# Altium integrated library Micron Memory Mobile LPDRAM.IntLib: 146 symbols (part 29 of 41)
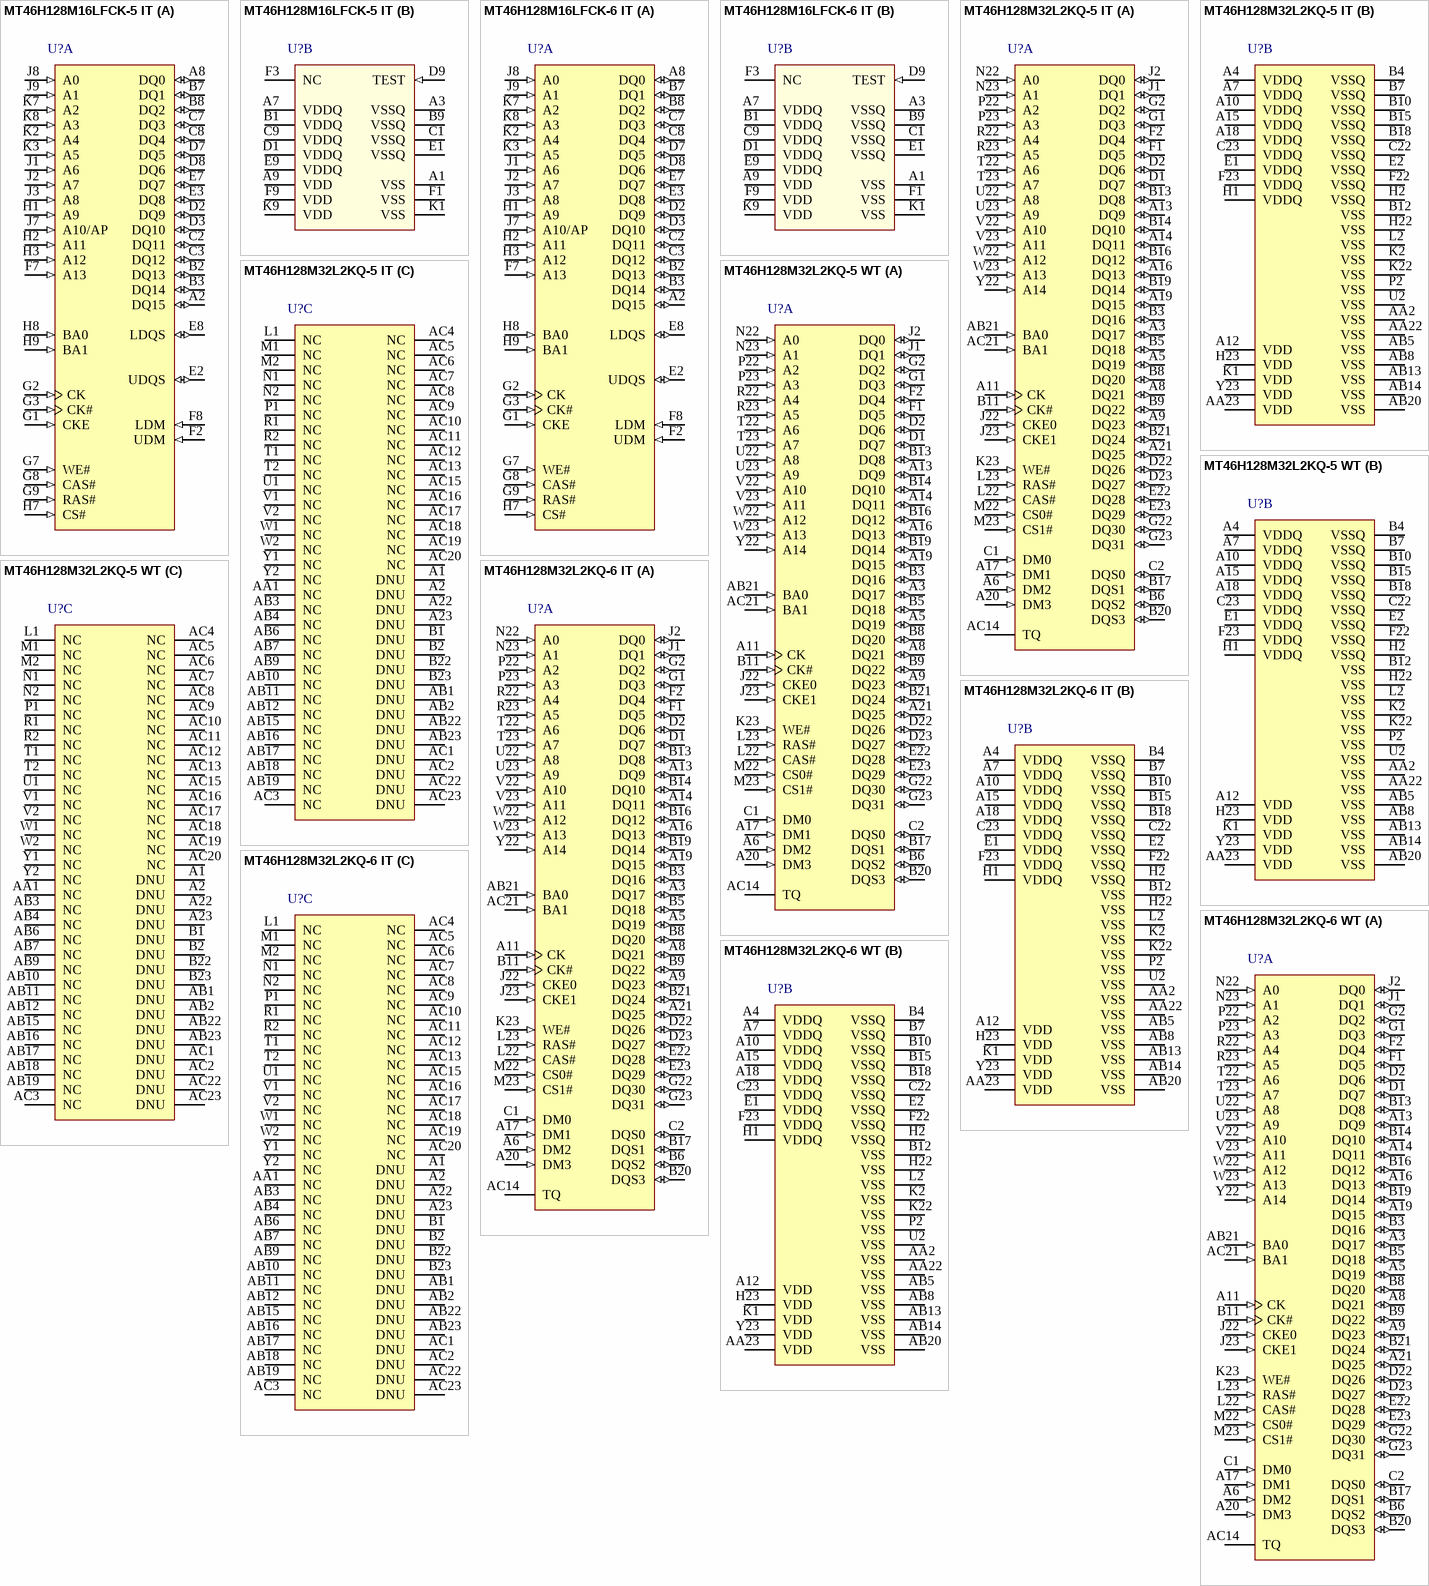
[diagram p52: symbols MT46H128M16LFCK-5 IT to MT46H128M32L2KQ-6 WT]

## MT46H128M32L2KQ-5 WT
designator U?
4Gb LPDDR400 SDRAM, 128Mb x 32, 5ns, 1.8V, -25 to 85 degC, 168-Pin POP, Pb-Free; Manufacturer: Micron; PartNumber: MT46H128M32L2KQ-5 WT; Clock Rate: 200 MHz; Op. Temp.: -25C to +85C; DatasheetVersion: Rev.E; PackageVersion: Rev.E; PackageReference: MICT-KQ-168; PackageDescription: 168-Ball POP, 12 x 12 mm, Pitch 0.5 mm; Cycle Time: 5ns; Data Rate: LPDDR400; Density: 4Gb; Depth: 128Mb; Package: POP; Part Status: Production; Pin Count: 168-ball; RoHS: Yes; Technology: Mobile LPDDR; Voltage: 1.8V; Width: x32; Mounting Technology: Surface Mount; ComponentLink1Description: Manufacturer URL; ComponentLink1URL: http://www.micron.com/; ComponentLink2Description: Datasheet; ComponentLink2URL: http://www.micron.com/~/media/Documents/Products/Data%20Sheet/DRAM/Mobile%20DRAM/Low-Power%20DRAM/LPDDR/70-series/T79M_2Gb_mobile_lpddr_sdram.pdf; ComponentLink3Description: Package Specification; ComponentLink3URL: http://www.micron.com/~/media/Documents/Products/Data%20Sheet/DRAM/Mobile%20DRAM/Low-Power%20DRAM/LPDDR/70-series/T79M_2Gb_mobile_lpddr_sdram.pdf
footprint MICT-KQ-168 (BGA, 168-Balls, Body 12x12mm, Pitch 0.5mm)
part A pins: A3 DQ17 (io) "Data input/output: Data bus for x16 and x32.", A5 DQ19 (io) "Data input/output: Data bus for x16 and x32.", A6 DM2 (in) "Input data mask: DM is an input mask signal for write data. Input data is masked when DM is sampled HIGH along with that input data during a WRITE access. DM is sampled on both edges of DQS. Although DM balls are input-only, (See Datasheet)", A8 DQ21 (io) "Data input/output: Data bus for x16 and x32.", A9 DQ23 (io) "Data input/output: Data bus for x16 and x32.", A11 CK (in) "Clock: CK is the system clock input. CK and CK# are differential clock inputs. All address and control input signals are sampled on the crossing of the positive edge of CK and the negative edge of CK#. Input and output data (See Datasheet)", A13 DQ9 (io) "Data input/output: Data bus for x16 and x32.", A14 DQ11 (io) "Data input/output: Data bus for x16 and x32.", A16 DQ13 (io) "Data input/output: Data bus for x16 and x32.", A17 DM1 (in) "Input data mask: DM is an input mask signal for write data. Input data is masked when DM is sampled HIGH along with that input data during a WRITE access. DM is sampled on both edges of DQS. Although DM balls are input-only, (See Datasheet)", A19 DQ15 (io) "Data input/output: Data bus for x16 and x32.", A20 DM3 (in) "Input data mask: DM is an input mask signal for write data. Input data is masked when DM is sampled HIGH along with that input data during a WRITE access. DM is sampled on both edges of DQS. Although DM balls are input-only, (See Datasheet)", A21 DQ25 (io) "Data input/output: Data bus for x16 and x32.", AB21 BA0 (in) "Bank address inputs: BA0 and BA1 define to which bank an ACTIVE, READ, WRITE, or PRECHARGE command is being applied. BA0 and BA1 also determine which mode register is loaded during a LOAD MODE REGISTER command.", AC14 TQ (hiz) "Temperature sensor output: TQ HIGH when LPDDR TJ exceeds 85degreesC.", AC21 BA1 (in) "Bank address inputs: BA0 and BA1 define to which bank an ACTIVE, READ, WRITE, or PRECHARGE command is being applied. BA0 and BA1 also determine which mode register is loaded during a LOAD MODE REGISTER command.", B3 DQ16 (io) "Data input/output: Data bus for x16 and x32.", B5 DQ18 (io) "Data input/output: Data bus for x16 and x32.", B6 DQS2 (io) "Data strobe: Output with read data, input with write data. DQS is edge-aligned with read data, center-aligned in write data. It is used to capture data.", B8 DQ20 (io) "Data input/output: Data bus for x16 and x32.", B9 DQ22 (io) "Data input/output: Data bus for x16 and x32.", B11 CK# (in) "Clock: CK is the system clock input. CK and CK# are differential clock inputs. All address and control input signals are sampled on the crossing of the positive edge of CK and the negative edge of CK#. Input and output data (See Datasheet)", B13 DQ8 (io) "Data input/output: Data bus for x16 and x32.", B14 DQ10 (io) "Data input/output: Data bus for x16 and x32.", B16 DQ12 (io) "Data input/output: Data bus for x16 and x32.", B17 DQS1 (io) "Data strobe: Output with read data, input with write data. DQS is edge-aligned with read data, center-aligned in write data. It is used to capture data.", B19 DQ14 (io) "Data input/output: Data bus for x16 and x32.", B20 DQS3 (io) "Data strobe: Output with read data, input with write data. DQS is edge-aligned with read data, center-aligned in write data. It is used to capture data.", B21 DQ24 (io) "Data input/output: Data bus for x16 and x32.", C1 DM0 (in) "Input data mask: DM is an input mask signal for write data. Input data is masked when DM is sampled HIGH along with that input data during a WRITE access. DM is sampled on both edges of DQS. Although DM balls are input-only, (See Datasheet)", C2 DQS0 (io) "Data strobe: Output with read data, input with write data. DQS is edge-aligned with read data, center-aligned in write data. It is used to capture data.", D1 DQ7 (io) "Data input/output: Data bus for x16 and x32.", D2 DQ6 (io) "Data input/output: Data bus for x16 and x32.", D22 DQ26 (io) "Data input/output: Data bus for x16 and x32.", D23 DQ27 (io) "Data input/output: Data bus for x16 and x32.", E22 DQ28 (io) "Data input/output: Data bus for x16 and x32.", E23 DQ29 (io) "Data input/output: Data bus for x16 and x32.", F1 DQ5 (io) "Data input/output: Data bus for x16 and x32.", F2 DQ4 (io) "Data input/output: Data bus for x16 and x32.", G1 DQ3 (io) "Data input/output: Data bus for x16 and x32.", G2 DQ2 (io) "Data input/output: Data bus for x16 and x32.", G22 DQ30 (io) "Data input/output: Data bus for x16 and x32.", G23 DQ31 (io) "Data input/output: Data bus for x16 and x32.", J1 DQ1 (io) "Data input/output: Data bus for x16 and x32.", J2 DQ0 (io) "Data input/output: Data bus for x16 and x32.", J22 CKE0 (in) "Clock enable: CKE HIGH activates, and CKE LOW deactivates, the internal clock signals, input buffers, and output drivers. Taking CKE LOW enables PRECHARGE power-down and SELF REFRESH operations (all banks idle), or ACTIVE (See Datasheet)", J23 CKE1 (in) "Clock enable: CKE HIGH activates, and CKE LOW deactivates, the internal clock signals, input buffers, and output drivers. Taking CKE LOW enables PRECHARGE power-down and SELF REFRESH operations (all banks idle), or ACTIVE (See Datasheet)", K23 WE# (in) "Command inputs: RAS#, CAS#, and WE# (along with CS#) define the command being entered.", L22 CAS# (in) "Command inputs: RAS#, CAS#, and WE# (along with CS#) define the command being entered.", L23 RAS# (in) "Command inputs: RAS#, CAS#, and WE# (along with CS#) define the command being entered.", M22 CS0# (in) "CS0# is used for a single LPDDR product.", M23 CS1# (in) "CS1# is used for dual LPDDR products and is considered RFU for single LPDDR MCPs.", N22 A0 (in) "Address inputs: Provide the row address for ACTIVE commands, and the column address and auto precharge bit (A10) for READ or WRITE commands, to select one location out of the memory array in the respective bank. During a (See Datasheet)", N23 A1 (in) "Address inputs: Provide the row address for ACTIVE commands, and the column address and auto precharge bit (A10) for READ or WRITE commands, to select one location out of the memory array in the respective bank. During a (See Datasheet)", P22 A2 (in) "Address inputs: Provide the row address for ACTIVE commands, and the column address and auto precharge bit (A10) for READ or WRITE commands, to select one location out of the memory array in the respective bank. During a (See Datasheet)", P23 A3 (in) "Address inputs: Provide the row address for ACTIVE commands, and the column address and auto precharge bit (A10) for READ or WRITE commands, to select one location out of the memory array in the respective bank. During a (See Datasheet)", R22 A4 (in) "Address inputs: Provide the row address for ACTIVE commands, and the column address and auto precharge bit (A10) for READ or WRITE commands, to select one location out of the memory array in the respective bank. During a (See Datasheet)", R23 A5 (in) "Address inputs: Provide the row address for ACTIVE commands, and the column address and auto precharge bit (A10) for READ or WRITE commands, to select one location out of the memory array in the respective bank. During a (See Datasheet)", T22 A6 (in) "Address inputs: Provide the row address for ACTIVE commands, and the column address and auto precharge bit (A10) for READ or WRITE commands, to select one location out of the memory array in the respective bank. During a (See Datasheet)", T23 A7 (in) "Address inputs: Provide the row address for ACTIVE commands, and the column address and auto precharge bit (A10) for READ or WRITE commands, to select one location out of the memory array in the respective bank. During a (See Datasheet)", U22 A8 (in) "Address inputs: Provide the row address for ACTIVE commands, and the column address and auto precharge bit (A10) for READ or WRITE commands, to select one location out of the memory array in the respective bank. During a (See Datasheet)", U23 A9 (in) "Address inputs: Provide the row address for ACTIVE commands, and the column address and auto precharge bit (A10) for READ or WRITE commands, to select one location out of the memory array in the respective bank. During a (See Datasheet)", V22 A10 (in) "Address inputs: Provide the row address for ACTIVE commands, and the column address and auto precharge bit (A10) for READ or WRITE commands, to select one location out of the memory array in the respective bank. During a (See Datasheet)", V23 A11 (in) "Address inputs: Provide the row address for ACTIVE commands, and the column address and auto precharge bit (A10) for READ or WRITE commands, to select one location out of the memory array in the respective bank. During a (See Datasheet)", W22 A12 (in) "Address inputs: Provide the row address for ACTIVE commands, and the column address and auto precharge bit (A10) for READ or WRITE commands, to select one location out of the memory array in the respective bank. During a (See Datasheet)", W23 A13 (in) "Address inputs: Provide the row address for ACTIVE commands, and the column address and auto precharge bit (A10) for READ or WRITE commands, to select one location out of the memory array in the respective bank. During a (See Datasheet)", Y22 A14 (in) "Address inputs: Provide the row address for ACTIVE commands, and the column address and auto precharge bit (A10) for READ or WRITE commands, to select one location out of the memory array in the respective bank. During a (See Datasheet)"
part B pins: A4 VDDQ (power) "DQ power supply.", A7 VDDQ (power) "DQ power supply.", A10 VDDQ (power) "DQ power supply.", A12 VDD (power) "Power supply.", A15 VDDQ (power) "DQ power supply.", A18 VDDQ (power) "DQ power supply.", AA2 VSS (power) "Ground.", AA22 VSS (power) "Ground.", AA23 VDD (power) "Power supply.", AB5 VSS (power) "Ground.", AB8 VSS (power) "Ground.", AB13 VSS (power) "Ground.", AB14 VSS (power) "Ground.", AB20 VSS (power) "Ground.", B4 VSSQ (power) "DQ ground.", B7 VSSQ (power) "DQ ground.", B10 VSSQ (power) "DQ ground.", B12 VSS (power) "Ground.", B15 VSSQ (power) "DQ ground.", B18 VSSQ (power) "DQ ground.", C22 VSSQ (power) "DQ ground.", C23 VDDQ (power) "DQ power supply.", E1 VDDQ (power) "DQ power supply.", E2 VSSQ (power) "DQ ground.", F22 VSSQ (power) "DQ ground.", F23 VDDQ (power) "DQ power supply.", H1 VDDQ (power) "DQ power supply.", H2 VSSQ (power) "DQ ground.", H22 VSS (power) "Ground.", H23 VDD (power) "Power supply.", K1 VDD (power) "Power supply.", K2 VSS (power) "Ground.", K22 VSS (power) "Ground.", L2 VSS (power) "Ground.", P2 VSS (power) "Ground.", U2 VSS (power) "Ground.", Y23 VDD (power) "Power supply."
part C pins: A1 DNU "Do not use", A2 DNU "Do not use", A22 DNU "Do not use", A23 DNU "Do not use", AA1 NC "No connect: May be left unconnected.", AB1 DNU "Do not use", AB2 DNU "Do not use", AB3 NC "No connect: May be left unconnected.", AB4 NC "No connect: May be left unconnected.", AB6 NC "No connect: May be left unconnected.", AB7 NC "No connect: May be left unconnected.", AB9 NC "No connect: May be left unconnected.", AB10 NC "No connect: May be left unconnected.", AB11 NC "No connect: May be left unconnected.", AB12 NC "No connect: May be left unconnected.", AB15 NC "No connect: May be left unconnected.", AB16 NC "No connect: May be left unconnected.", AB17 NC "No connect: May be left unconnected.", AB18 NC "No connect: May be left unconnected.", AB19 NC "No connect: May be left unconnected.", AB22 DNU "Do not use", AB23 DNU "Do not use", AC1 DNU "Do not use", AC2 DNU "Do not use", AC3 NC "No connect: May be left unconnected.", AC4 NC "No connect: May be left unconnected.", AC5 NC "No connect: May be left unconnected.", AC6 NC "No connect: May be left unconnected.", AC7 NC "No connect: May be left unconnected.", AC8 NC "No connect: May be left unconnected.", AC9 NC "No connect: May be left unconnected.", AC10 NC "No connect: May be left unconnected.", AC11 NC "No connect: May be left unconnected.", AC12 NC "No connect: May be left unconnected.", AC13 NC "No connect: May be left unconnected.", AC15 NC "No connect: May be left unconnected.", AC16 NC "No connect: May be left unconnected.", AC17 NC "No connect: May be left unconnected.", AC18 NC "No connect: May be left unconnected.", AC19 NC "No connect: May be left unconnected.", AC20 NC "No connect: May be left unconnected.", AC22 DNU "Do not use", AC23 DNU "Do not use", B1 DNU "Do not use", B2 DNU "Do not use", B22 DNU "Do not use", B23 DNU "Do not use", L1 NC "No connect: May be left unconnected.", M1 NC "No connect: May be left unconnected.", M2 NC "No connect: May be left unconnected.", N1 NC "No connect: May be left unconnected.", N2 NC "No connect: May be left unconnected.", P1 NC "No connect: May be left unconnected.", R1 NC "No connect: May be left unconnected.", R2 NC "No connect: May be left unconnected.", T1 NC "No connect: May be left unconnected.", T2 NC "No connect: May be left unconnected.", U1 NC "No connect: May be left unconnected.", V1 NC "No connect: May be left unconnected.", V2 NC "No connect: May be left unconnected.", W1 NC "No connect: May be left unconnected.", W2 NC "No connect: May be left unconnected.", Y1 NC "No connect: May be left unconnected.", Y2 NC "No connect: May be left unconnected."

## MT46H128M32L2KQ-6 IT
designator U?
4Gb LPDDR333 SDRAM, 128Mb x 32, 6ns, 1.8V, -40 to 85 degC, 168-Pin POP, Pb-Free; Manufacturer: Micron; PartNumber: MT46H128M32L2KQ-6 IT; Clock Rate: 167 MHz; Op. Temp.: -40C to +85C; DatasheetVersion: Rev.E; PackageVersion: Rev.E; PackageReference: MICT-KQ-168; PackageDescription: 168-Ball POP, 12 x 12 mm, Pitch 0.5 mm; Cycle Time: 6ns; Data Rate: LPDDR333; Density: 4Gb; Depth: 128Mb; Package: POP; Part Status: Production; Pin Count: 168-ball; RoHS: Yes; Technology: Mobile LPDDR; Voltage: 1.8V; Width: x32; Mounting Technology: Surface Mount; ComponentLink1Description: Manufacturer URL; ComponentLink1URL: http://www.micron.com/; ComponentLink2Description: Datasheet; ComponentLink2URL: http://www.micron.com/~/media/Documents/Products/Data%20Sheet/DRAM/Mobile%20DRAM/Low-Power%20DRAM/LPDDR/70-series/T79M_2Gb_mobile_lpddr_sdram.pdf; ComponentLink3Description: Package Specification; ComponentLink3URL: http://www.micron.com/~/media/Documents/Products/Data%20Sheet/DRAM/Mobile%20DRAM/Low-Power%20DRAM/LPDDR/70-series/T79M_2Gb_mobile_lpddr_sdram.pdf
footprint MICT-KQ-168 (BGA, 168-Balls, Body 12x12mm, Pitch 0.5mm)
part A pins: A3 DQ17 (io) "Data input/output: Data bus for x16 and x32.", A5 DQ19 (io) "Data input/output: Data bus for x16 and x32.", A6 DM2 (in) "Input data mask: DM is an input mask signal for write data. Input data is masked when DM is sampled HIGH along with that input data during a WRITE access. DM is sampled on both edges of DQS. Although DM balls are input-only, (See Datasheet)", A8 DQ21 (io) "Data input/output: Data bus for x16 and x32.", A9 DQ23 (io) "Data input/output: Data bus for x16 and x32.", A11 CK (in) "Clock: CK is the system clock input. CK and CK# are differential clock inputs. All address and control input signals are sampled on the crossing of the positive edge of CK and the negative edge of CK#. Input and output data (See Datasheet)", A13 DQ9 (io) "Data input/output: Data bus for x16 and x32.", A14 DQ11 (io) "Data input/output: Data bus for x16 and x32.", A16 DQ13 (io) "Data input/output: Data bus for x16 and x32.", A17 DM1 (in) "Input data mask: DM is an input mask signal for write data. Input data is masked when DM is sampled HIGH along with that input data during a WRITE access. DM is sampled on both edges of DQS. Although DM balls are input-only, (See Datasheet)", A19 DQ15 (io) "Data input/output: Data bus for x16 and x32.", A20 DM3 (in) "Input data mask: DM is an input mask signal for write data. Input data is masked when DM is sampled HIGH along with that input data during a WRITE access. DM is sampled on both edges of DQS. Although DM balls are input-only, (See Datasheet)", A21 DQ25 (io) "Data input/output: Data bus for x16 and x32.", AB21 BA0 (in) "Bank address inputs: BA0 and BA1 define to which bank an ACTIVE, READ, WRITE, or PRECHARGE command is being applied. BA0 and BA1 also determine which mode register is loaded during a LOAD MODE REGISTER command.", AC14 TQ (hiz) "Temperature sensor output: TQ HIGH when LPDDR TJ exceeds 85degreesC.", AC21 BA1 (in) "Bank address inputs: BA0 and BA1 define to which bank an ACTIVE, READ, WRITE, or PRECHARGE command is being applied. BA0 and BA1 also determine which mode register is loaded during a LOAD MODE REGISTER command.", B3 DQ16 (io) "Data input/output: Data bus for x16 and x32.", B5 DQ18 (io) "Data input/output: Data bus for x16 and x32.", B6 DQS2 (io) "Data strobe: Output with read data, input with write data. DQS is edge-aligned with read data, center-aligned in write data. It is used to capture data.", B8 DQ20 (io) "Data input/output: Data bus for x16 and x32.", B9 DQ22 (io) "Data input/output: Data bus for x16 and x32.", B11 CK# (in) "Clock: CK is the system clock input. CK and CK# are differential clock inputs. All address and control input signals are sampled on the crossing of the positive edge of CK and the negative edge of CK#. Input and output data (See Datasheet)", B13 DQ8 (io) "Data input/output: Data bus for x16 and x32.", B14 DQ10 (io) "Data input/output: Data bus for x16 and x32.", B16 DQ12 (io) "Data input/output: Data bus for x16 and x32.", B17 DQS1 (io) "Data strobe: Output with read data, input with write data. DQS is edge-aligned with read data, center-aligned in write data. It is used to capture data.", B19 DQ14 (io) "Data input/output: Data bus for x16 and x32.", B20 DQS3 (io) "Data strobe: Output with read data, input with write data. DQS is edge-aligned with read data, center-aligned in write data. It is used to capture data.", B21 DQ24 (io) "Data input/output: Data bus for x16 and x32.", C1 DM0 (in) "Input data mask: DM is an input mask signal for write data. Input data is masked when DM is sampled HIGH along with that input data during a WRITE access. DM is sampled on both edges of DQS. Although DM balls are input-only, (See Datasheet)", C2 DQS0 (io) "Data strobe: Output with read data, input with write data. DQS is edge-aligned with read data, center-aligned in write data. It is used to capture data.", D1 DQ7 (io) "Data input/output: Data bus for x16 and x32.", D2 DQ6 (io) "Data input/output: Data bus for x16 and x32.", D22 DQ26 (io) "Data input/output: Data bus for x16 and x32.", D23 DQ27 (io) "Data input/output: Data bus for x16 and x32.", E22 DQ28 (io) "Data input/output: Data bus for x16 and x32.", E23 DQ29 (io) "Data input/output: Data bus for x16 and x32.", F1 DQ5 (io) "Data input/output: Data bus for x16 and x32.", F2 DQ4 (io) "Data input/output: Data bus for x16 and x32.", G1 DQ3 (io) "Data input/output: Data bus for x16 and x32.", G2 DQ2 (io) "Data input/output: Data bus for x16 and x32.", G22 DQ30 (io) "Data input/output: Data bus for x16 and x32.", G23 DQ31 (io) "Data input/output: Data bus for x16 and x32.", J1 DQ1 (io) "Data input/output: Data bus for x16 and x32.", J2 DQ0 (io) "Data input/output: Data bus for x16 and x32.", J22 CKE0 (in) "Clock enable: CKE HIGH activates, and CKE LOW deactivates, the internal clock signals, input buffers, and output drivers. Taking CKE LOW enables PRECHARGE power-down and SELF REFRESH operations (all banks idle), or ACTIVE (See Datasheet)", J23 CKE1 (in) "Clock enable: CKE HIGH activates, and CKE LOW deactivates, the internal clock signals, input buffers, and output drivers. Taking CKE LOW enables PRECHARGE power-down and SELF REFRESH operations (all banks idle), or ACTIVE (See Datasheet)", K23 WE# (in) "Command inputs: RAS#, CAS#, and WE# (along with CS#) define the command being entered.", L22 CAS# (in) "Command inputs: RAS#, CAS#, and WE# (along with CS#) define the command being entered.", L23 RAS# (in) "Command inputs: RAS#, CAS#, and WE# (along with CS#) define the command being entered.", M22 CS0# (in) "CS0# is used for a single LPDDR product.", M23 CS1# (in) "CS1# is used for dual LPDDR products and is considered RFU for single LPDDR MCPs.", N22 A0 (in) "Address inputs: Provide the row address for ACTIVE commands, and the column address and auto precharge bit (A10) for READ or WRITE commands, to select one location out of the memory array in the respective bank. During a (See Datasheet)", N23 A1 (in) "Address inputs: Provide the row address for ACTIVE commands, and the column address and auto precharge bit (A10) for READ or WRITE commands, to select one location out of the memory array in the respective bank. During a (See Datasheet)", P22 A2 (in) "Address inputs: Provide the row address for ACTIVE commands, and the column address and auto precharge bit (A10) for READ or WRITE commands, to select one location out of the memory array in the respective bank. During a (See Datasheet)", P23 A3 (in) "Address inputs: Provide the row address for ACTIVE commands, and the column address and auto precharge bit (A10) for READ or WRITE commands, to select one location out of the memory array in the respective bank. During a (See Datasheet)", R22 A4 (in) "Address inputs: Provide the row address for ACTIVE commands, and the column address and auto precharge bit (A10) for READ or WRITE commands, to select one location out of the memory array in the respective bank. During a (See Datasheet)", R23 A5 (in) "Address inputs: Provide the row address for ACTIVE commands, and the column address and auto precharge bit (A10) for READ or WRITE commands, to select one location out of the memory array in the respective bank. During a (See Datasheet)", T22 A6 (in) "Address inputs: Provide the row address for ACTIVE commands, and the column address and auto precharge bit (A10) for READ or WRITE commands, to select one location out of the memory array in the respective bank. During a (See Datasheet)", T23 A7 (in) "Address inputs: Provide the row address for ACTIVE commands, and the column address and auto precharge bit (A10) for READ or WRITE commands, to select one location out of the memory array in the respective bank. During a (See Datasheet)", U22 A8 (in) "Address inputs: Provide the row address for ACTIVE commands, and the column address and auto precharge bit (A10) for READ or WRITE commands, to select one location out of the memory array in the respective bank. During a (See Datasheet)", U23 A9 (in) "Address inputs: Provide the row address for ACTIVE commands, and the column address and auto precharge bit (A10) for READ or WRITE commands, to select one location out of the memory array in the respective bank. During a (See Datasheet)", V22 A10 (in) "Address inputs: Provide the row address for ACTIVE commands, and the column address and auto precharge bit (A10) for READ or WRITE commands, to select one location out of the memory array in the respective bank. During a (See Datasheet)", V23 A11 (in) "Address inputs: Provide the row address for ACTIVE commands, and the column address and auto precharge bit (A10) for READ or WRITE commands, to select one location out of the memory array in the respective bank. During a (See Datasheet)", W22 A12 (in) "Address inputs: Provide the row address for ACTIVE commands, and the column address and auto precharge bit (A10) for READ or WRITE commands, to select one location out of the memory array in the respective bank. During a (See Datasheet)", W23 A13 (in) "Address inputs: Provide the row address for ACTIVE commands, and the column address and auto precharge bit (A10) for READ or WRITE commands, to select one location out of the memory array in the respective bank. During a (See Datasheet)", Y22 A14 (in) "Address inputs: Provide the row address for ACTIVE commands, and the column address and auto precharge bit (A10) for READ or WRITE commands, to select one location out of the memory array in the respective bank. During a (See Datasheet)"
part B pins: A4 VDDQ (power) "DQ power supply.", A7 VDDQ (power) "DQ power supply.", A10 VDDQ (power) "DQ power supply.", A12 VDD (power) "Power supply.", A15 VDDQ (power) "DQ power supply.", A18 VDDQ (power) "DQ power supply.", AA2 VSS (power) "Ground.", AA22 VSS (power) "Ground.", AA23 VDD (power) "Power supply.", AB5 VSS (power) "Ground.", AB8 VSS (power) "Ground.", AB13 VSS (power) "Ground.", AB14 VSS (power) "Ground.", AB20 VSS (power) "Ground.", B4 VSSQ (power) "DQ ground.", B7 VSSQ (power) "DQ ground.", B10 VSSQ (power) "DQ ground.", B12 VSS (power) "Ground.", B15 VSSQ (power) "DQ ground.", B18 VSSQ (power) "DQ ground.", C22 VSSQ (power) "DQ ground.", C23 VDDQ (power) "DQ power supply.", E1 VDDQ (power) "DQ power supply.", E2 VSSQ (power) "DQ ground.", F22 VSSQ (power) "DQ ground.", F23 VDDQ (power) "DQ power supply.", H1 VDDQ (power) "DQ power supply.", H2 VSSQ (power) "DQ ground.", H22 VSS (power) "Ground.", H23 VDD (power) "Power supply.", K1 VDD (power) "Power supply.", K2 VSS (power) "Ground.", K22 VSS (power) "Ground.", L2 VSS (power) "Ground.", P2 VSS (power) "Ground.", U2 VSS (power) "Ground.", Y23 VDD (power) "Power supply."
part C pins: A1 DNU "Do not use", A2 DNU "Do not use", A22 DNU "Do not use", A23 DNU "Do not use", AA1 NC "No connect: May be left unconnected.", AB1 DNU "Do not use", AB2 DNU "Do not use", AB3 NC "No connect: May be left unconnected.", AB4 NC "No connect: May be left unconnected.", AB6 NC "No connect: May be left unconnected.", AB7 NC "No connect: May be left unconnected.", AB9 NC "No connect: May be left unconnected.", AB10 NC "No connect: May be left unconnected.", AB11 NC "No connect: May be left unconnected.", AB12 NC "No connect: May be left unconnected.", AB15 NC "No connect: May be left unconnected.", AB16 NC "No connect: May be left unconnected.", AB17 NC "No connect: May be left unconnected.", AB18 NC "No connect: May be left unconnected.", AB19 NC "No connect: May be left unconnected.", AB22 DNU "Do not use", AB23 DNU "Do not use", AC1 DNU "Do not use", AC2 DNU "Do not use", AC3 NC "No connect: May be left unconnected.", AC4 NC "No connect: May be left unconnected.", AC5 NC "No connect: May be left unconnected.", AC6 NC "No connect: May be left unconnected.", AC7 NC "No connect: May be left unconnected.", AC8 NC "No connect: May be left unconnected.", AC9 NC "No connect: May be left unconnected.", AC10 NC "No connect: May be left unconnected.", AC11 NC "No connect: May be left unconnected.", AC12 NC "No connect: May be left unconnected.", AC13 NC "No connect: May be left unconnected.", AC15 NC "No connect: May be left unconnected.", AC16 NC "No connect: May be left unconnected.", AC17 NC "No connect: May be left unconnected.", AC18 NC "No connect: May be left unconnected.", AC19 NC "No connect: May be left unconnected.", AC20 NC "No connect: May be left unconnected.", AC22 DNU "Do not use", AC23 DNU "Do not use", B1 DNU "Do not use", B2 DNU "Do not use", B22 DNU "Do not use", B23 DNU "Do not use", L1 NC "No connect: May be left unconnected.", M1 NC "No connect: May be left unconnected.", M2 NC "No connect: May be left unconnected.", N1 NC "No connect: May be left unconnected.", N2 NC "No connect: May be left unconnected.", P1 NC "No connect: May be left unconnected.", R1 NC "No connect: May be left unconnected.", R2 NC "No connect: May be left unconnected.", T1 NC "No connect: May be left unconnected.", T2 NC "No connect: May be left unconnected.", U1 NC "No connect: May be left unconnected.", V1 NC "No connect: May be left unconnected.", V2 NC "No connect: May be left unconnected.", W1 NC "No connect: May be left unconnected.", W2 NC "No connect: May be left unconnected.", Y1 NC "No connect: May be left unconnected.", Y2 NC "No connect: May be left unconnected."

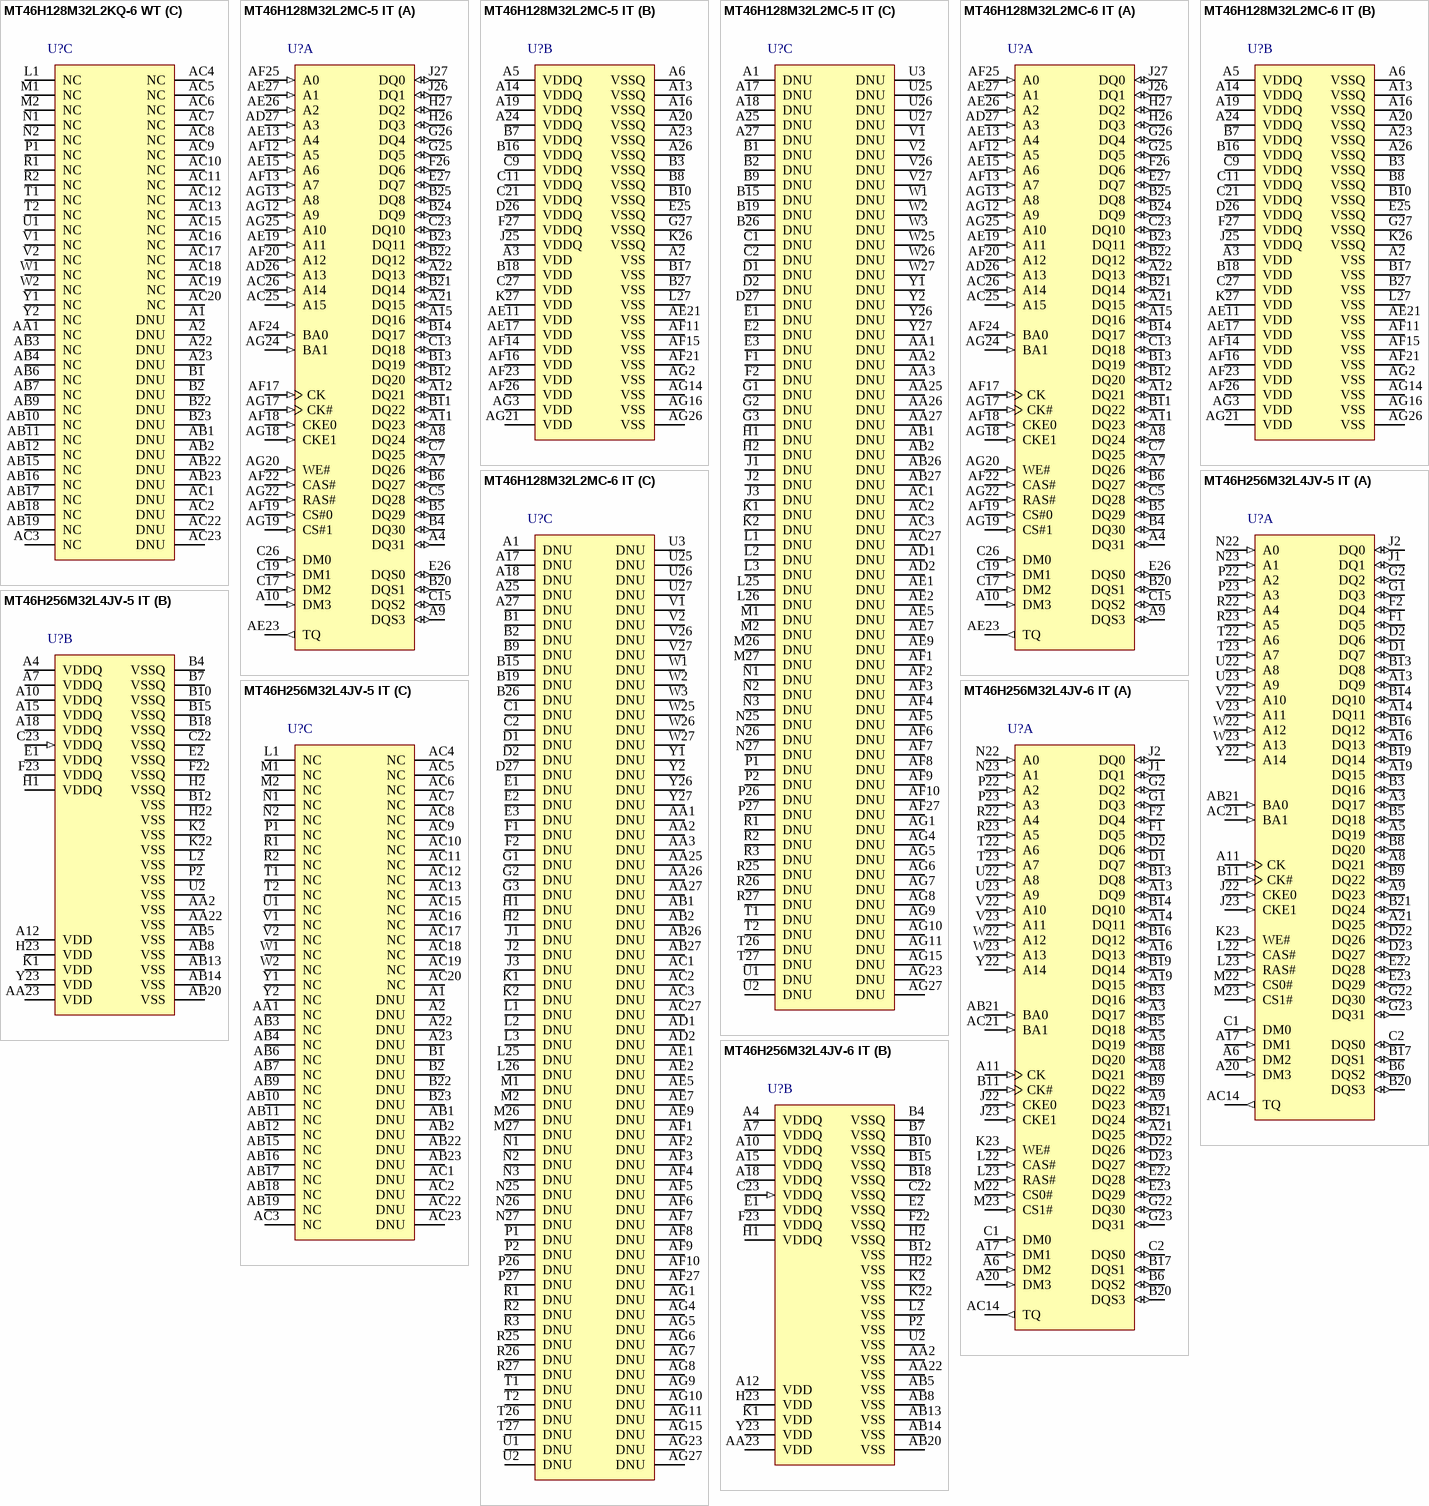
[diagram p18: symbols MT46H128M32L2KQ-6 WT to MT46H256M32L4JV-6 IT]

## MT46H128M32L2KQ-6 WT
designator U?
4Gb LPDDR333 SDRAM, 128Mb x 32, 6ns, 1.8V, -25 to 85 degC, 168-Pin POP, Pb-Free; Manufacturer: Micron; PartNumber: MT46H128M32L2KQ-6 WT; Clock Rate: 167 MHz; Op. Temp.: -25C to +85C; DatasheetVersion: Rev.E; PackageVersion: Rev.E; PackageReference: MICT-KQ-168; PackageDescription: 168-Ball POP, 12 x 12 mm, Pitch 0.5 mm; Cycle Time: 6ns; Data Rate: LPDDR333; Density: 4Gb; Depth: 128Mb; Package: POP; Part Status: Production; Pin Count: 168-ball; RoHS: Yes; Technology: Mobile LPDDR; Voltage: 1.8V; Width: x32; Mounting Technology: Surface Mount; ComponentLink1Description: Manufacturer URL; ComponentLink1URL: http://www.micron.com/; ComponentLink2Description: Datasheet; ComponentLink2URL: http://www.micron.com/~/media/Documents/Products/Data%20Sheet/DRAM/Mobile%20DRAM/Low-Power%20DRAM/LPDDR/70-series/T79M_2Gb_mobile_lpddr_sdram.pdf; ComponentLink3Description: Package Specification; ComponentLink3URL: http://www.micron.com/~/media/Documents/Products/Data%20Sheet/DRAM/Mobile%20DRAM/Low-Power%20DRAM/LPDDR/70-series/T79M_2Gb_mobile_lpddr_sdram.pdf
footprint MICT-KQ-168 (BGA, 168-Balls, Body 12x12mm, Pitch 0.5mm)
part A pins: A3 DQ17 (io) "Data input/output: Data bus for x16 and x32.", A5 DQ19 (io) "Data input/output: Data bus for x16 and x32.", A6 DM2 (in) "Input data mask: DM is an input mask signal for write data. Input data is masked when DM is sampled HIGH along with that input data during a WRITE access. DM is sampled on both edges of DQS. Although DM balls are input-only, (See Datasheet)", A8 DQ21 (io) "Data input/output: Data bus for x16 and x32.", A9 DQ23 (io) "Data input/output: Data bus for x16 and x32.", A11 CK (in) "Clock: CK is the system clock input. CK and CK# are differential clock inputs. All address and control input signals are sampled on the crossing of the positive edge of CK and the negative edge of CK#. Input and output data (See Datasheet)", A13 DQ9 (io) "Data input/output: Data bus for x16 and x32.", A14 DQ11 (io) "Data input/output: Data bus for x16 and x32.", A16 DQ13 (io) "Data input/output: Data bus for x16 and x32.", A17 DM1 (in) "Input data mask: DM is an input mask signal for write data. Input data is masked when DM is sampled HIGH along with that input data during a WRITE access. DM is sampled on both edges of DQS. Although DM balls are input-only, (See Datasheet)", A19 DQ15 (io) "Data input/output: Data bus for x16 and x32.", A20 DM3 (in) "Input data mask: DM is an input mask signal for write data. Input data is masked when DM is sampled HIGH along with that input data during a WRITE access. DM is sampled on both edges of DQS. Although DM balls are input-only, (See Datasheet)", A21 DQ25 (io) "Data input/output: Data bus for x16 and x32.", AB21 BA0 (in) "Bank address inputs: BA0 and BA1 define to which bank an ACTIVE, READ, WRITE, or PRECHARGE command is being applied. BA0 and BA1 also determine which mode register is loaded during a LOAD MODE REGISTER command.", AC14 TQ (hiz) "Temperature sensor output: TQ HIGH when LPDDR TJ exceeds 85degreesC.", AC21 BA1 (in) "Bank address inputs: BA0 and BA1 define to which bank an ACTIVE, READ, WRITE, or PRECHARGE command is being applied. BA0 and BA1 also determine which mode register is loaded during a LOAD MODE REGISTER command.", B3 DQ16 (io) "Data input/output: Data bus for x16 and x32.", B5 DQ18 (io) "Data input/output: Data bus for x16 and x32.", B6 DQS2 (io) "Data strobe: Output with read data, input with write data. DQS is edge-aligned with read data, center-aligned in write data. It is used to capture data.", B8 DQ20 (io) "Data input/output: Data bus for x16 and x32.", B9 DQ22 (io) "Data input/output: Data bus for x16 and x32.", B11 CK# (in) "Clock: CK is the system clock input. CK and CK# are differential clock inputs. All address and control input signals are sampled on the crossing of the positive edge of CK and the negative edge of CK#. Input and output data (See Datasheet)", B13 DQ8 (io) "Data input/output: Data bus for x16 and x32.", B14 DQ10 (io) "Data input/output: Data bus for x16 and x32.", B16 DQ12 (io) "Data input/output: Data bus for x16 and x32.", B17 DQS1 (io) "Data strobe: Output with read data, input with write data. DQS is edge-aligned with read data, center-aligned in write data. It is used to capture data.", B19 DQ14 (io) "Data input/output: Data bus for x16 and x32.", B20 DQS3 (io) "Data strobe: Output with read data, input with write data. DQS is edge-aligned with read data, center-aligned in write data. It is used to capture data.", B21 DQ24 (io) "Data input/output: Data bus for x16 and x32.", C1 DM0 (in) "Input data mask: DM is an input mask signal for write data. Input data is masked when DM is sampled HIGH along with that input data during a WRITE access. DM is sampled on both edges of DQS. Although DM balls are input-only, (See Datasheet)", C2 DQS0 (io) "Data strobe: Output with read data, input with write data. DQS is edge-aligned with read data, center-aligned in write data. It is used to capture data.", D1 DQ7 (io) "Data input/output: Data bus for x16 and x32.", D2 DQ6 (io) "Data input/output: Data bus for x16 and x32.", D22 DQ26 (io) "Data input/output: Data bus for x16 and x32.", D23 DQ27 (io) "Data input/output: Data bus for x16 and x32.", E22 DQ28 (io) "Data input/output: Data bus for x16 and x32.", E23 DQ29 (io) "Data input/output: Data bus for x16 and x32.", F1 DQ5 (io) "Data input/output: Data bus for x16 and x32.", F2 DQ4 (io) "Data input/output: Data bus for x16 and x32.", G1 DQ3 (io) "Data input/output: Data bus for x16 and x32.", G2 DQ2 (io) "Data input/output: Data bus for x16 and x32.", G22 DQ30 (io) "Data input/output: Data bus for x16 and x32.", G23 DQ31 (io) "Data input/output: Data bus for x16 and x32.", J1 DQ1 (io) "Data input/output: Data bus for x16 and x32.", J2 DQ0 (io) "Data input/output: Data bus for x16 and x32.", J22 CKE0 (in) "Clock enable: CKE HIGH activates, and CKE LOW deactivates, the internal clock signals, input buffers, and output drivers. Taking CKE LOW enables PRECHARGE power-down and SELF REFRESH operations (all banks idle), or ACTIVE (See Datasheet)", J23 CKE1 (in) "Clock enable: CKE HIGH activates, and CKE LOW deactivates, the internal clock signals, input buffers, and output drivers. Taking CKE LOW enables PRECHARGE power-down and SELF REFRESH operations (all banks idle), or ACTIVE (See Datasheet)", K23 WE# (in) "Command inputs: RAS#, CAS#, and WE# (along with CS#) define the command being entered.", L22 CAS# (in) "Command inputs: RAS#, CAS#, and WE# (along with CS#) define the command being entered.", L23 RAS# (in) "Command inputs: RAS#, CAS#, and WE# (along with CS#) define the command being entered.", M22 CS0# (in) "CS0# is used for a single LPDDR product.", M23 CS1# (in) "CS1# is used for dual LPDDR products and is considered RFU for single LPDDR MCPs.", N22 A0 (in) "Address inputs: Provide the row address for ACTIVE commands, and the column address and auto precharge bit (A10) for READ or WRITE commands, to select one location out of the memory array in the respective bank. During a (See Datasheet)", N23 A1 (in) "Address inputs: Provide the row address for ACTIVE commands, and the column address and auto precharge bit (A10) for READ or WRITE commands, to select one location out of the memory array in the respective bank. During a (See Datasheet)", P22 A2 (in) "Address inputs: Provide the row address for ACTIVE commands, and the column address and auto precharge bit (A10) for READ or WRITE commands, to select one location out of the memory array in the respective bank. During a (See Datasheet)", P23 A3 (in) "Address inputs: Provide the row address for ACTIVE commands, and the column address and auto precharge bit (A10) for READ or WRITE commands, to select one location out of the memory array in the respective bank. During a (See Datasheet)", R22 A4 (in) "Address inputs: Provide the row address for ACTIVE commands, and the column address and auto precharge bit (A10) for READ or WRITE commands, to select one location out of the memory array in the respective bank. During a (See Datasheet)", R23 A5 (in) "Address inputs: Provide the row address for ACTIVE commands, and the column address and auto precharge bit (A10) for READ or WRITE commands, to select one location out of the memory array in the respective bank. During a (See Datasheet)", T22 A6 (in) "Address inputs: Provide the row address for ACTIVE commands, and the column address and auto precharge bit (A10) for READ or WRITE commands, to select one location out of the memory array in the respective bank. During a (See Datasheet)", T23 A7 (in) "Address inputs: Provide the row address for ACTIVE commands, and the column address and auto precharge bit (A10) for READ or WRITE commands, to select one location out of the memory array in the respective bank. During a (See Datasheet)", U22 A8 (in) "Address inputs: Provide the row address for ACTIVE commands, and the column address and auto precharge bit (A10) for READ or WRITE commands, to select one location out of the memory array in the respective bank. During a (See Datasheet)", U23 A9 (in) "Address inputs: Provide the row address for ACTIVE commands, and the column address and auto precharge bit (A10) for READ or WRITE commands, to select one location out of the memory array in the respective bank. During a (See Datasheet)", V22 A10 (in) "Address inputs: Provide the row address for ACTIVE commands, and the column address and auto precharge bit (A10) for READ or WRITE commands, to select one location out of the memory array in the respective bank. During a (See Datasheet)", V23 A11 (in) "Address inputs: Provide the row address for ACTIVE commands, and the column address and auto precharge bit (A10) for READ or WRITE commands, to select one location out of the memory array in the respective bank. During a (See Datasheet)", W22 A12 (in) "Address inputs: Provide the row address for ACTIVE commands, and the column address and auto precharge bit (A10) for READ or WRITE commands, to select one location out of the memory array in the respective bank. During a (See Datasheet)", W23 A13 (in) "Address inputs: Provide the row address for ACTIVE commands, and the column address and auto precharge bit (A10) for READ or WRITE commands, to select one location out of the memory array in the respective bank. During a (See Datasheet)", Y22 A14 (in) "Address inputs: Provide the row address for ACTIVE commands, and the column address and auto precharge bit (A10) for READ or WRITE commands, to select one location out of the memory array in the respective bank. During a (See Datasheet)"
part B pins: A4 VDDQ (power) "DQ power supply.", A7 VDDQ (power) "DQ power supply.", A10 VDDQ (power) "DQ power supply.", A12 VDD (power) "Power supply.", A15 VDDQ (power) "DQ power supply.", A18 VDDQ (power) "DQ power supply.", AA2 VSS (power) "Ground.", AA22 VSS (power) "Ground.", AA23 VDD (power) "Power supply.", AB5 VSS (power) "Ground.", AB8 VSS (power) "Ground.", AB13 VSS (power) "Ground.", AB14 VSS (power) "Ground.", AB20 VSS (power) "Ground.", B4 VSSQ (power) "DQ ground.", B7 VSSQ (power) "DQ ground.", B10 VSSQ (power) "DQ ground.", B12 VSS (power) "Ground.", B15 VSSQ (power) "DQ ground.", B18 VSSQ (power) "DQ ground.", C22 VSSQ (power) "DQ ground.", C23 VDDQ (power) "DQ power supply.", E1 VDDQ (power) "DQ power supply.", E2 VSSQ (power) "DQ ground.", F22 VSSQ (power) "DQ ground.", F23 VDDQ (power) "DQ power supply.", H1 VDDQ (power) "DQ power supply.", H2 VSSQ (power) "DQ ground.", H22 VSS (power) "Ground.", H23 VDD (power) "Power supply.", K1 VDD (power) "Power supply.", K2 VSS (power) "Ground.", K22 VSS (power) "Ground.", L2 VSS (power) "Ground.", P2 VSS (power) "Ground.", U2 VSS (power) "Ground.", Y23 VDD (power) "Power supply."
part C pins: A1 DNU "Do not use", A2 DNU "Do not use", A22 DNU "Do not use", A23 DNU "Do not use", AA1 NC "No connect: May be left unconnected.", AB1 DNU "Do not use", AB2 DNU "Do not use", AB3 NC "No connect: May be left unconnected.", AB4 NC "No connect: May be left unconnected.", AB6 NC "No connect: May be left unconnected.", AB7 NC "No connect: May be left unconnected.", AB9 NC "No connect: May be left unconnected.", AB10 NC "No connect: May be left unconnected.", AB11 NC "No connect: May be left unconnected.", AB12 NC "No connect: May be left unconnected.", AB15 NC "No connect: May be left unconnected.", AB16 NC "No connect: May be left unconnected.", AB17 NC "No connect: May be left unconnected.", AB18 NC "No connect: May be left unconnected.", AB19 NC "No connect: May be left unconnected.", AB22 DNU "Do not use", AB23 DNU "Do not use", AC1 DNU "Do not use", AC2 DNU "Do not use", AC3 NC "No connect: May be left unconnected.", AC4 NC "No connect: May be left unconnected.", AC5 NC "No connect: May be left unconnected.", AC6 NC "No connect: May be left unconnected.", AC7 NC "No connect: May be left unconnected.", AC8 NC "No connect: May be left unconnected.", AC9 NC "No connect: May be left unconnected.", AC10 NC "No connect: May be left unconnected.", AC11 NC "No connect: May be left unconnected.", AC12 NC "No connect: May be left unconnected.", AC13 NC "No connect: May be left unconnected.", AC15 NC "No connect: May be left unconnected.", AC16 NC "No connect: May be left unconnected.", AC17 NC "No connect: May be left unconnected.", AC18 NC "No connect: May be left unconnected.", AC19 NC "No connect: May be left unconnected.", AC20 NC "No connect: May be left unconnected.", AC22 DNU "Do not use", AC23 DNU "Do not use", B1 DNU "Do not use", B2 DNU "Do not use", B22 DNU "Do not use", B23 DNU "Do not use", L1 NC "No connect: May be left unconnected.", M1 NC "No connect: May be left unconnected.", M2 NC "No connect: May be left unconnected.", N1 NC "No connect: May be left unconnected.", N2 NC "No connect: May be left unconnected.", P1 NC "No connect: May be left unconnected.", R1 NC "No connect: May be left unconnected.", R2 NC "No connect: May be left unconnected.", T1 NC "No connect: May be left unconnected.", T2 NC "No connect: May be left unconnected.", U1 NC "No connect: May be left unconnected.", V1 NC "No connect: May be left unconnected.", V2 NC "No connect: May be left unconnected.", W1 NC "No connect: May be left unconnected.", W2 NC "No connect: May be left unconnected.", Y1 NC "No connect: May be left unconnected.", Y2 NC "No connect: May be left unconnected."